# Altium integrated library Maxim Audio Pre-Amplifier.IntLib: 2 symbols
Pins are listed as number, name and electrical type; pins without a type are passive.

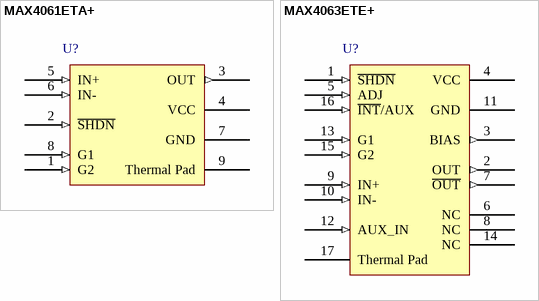
[diagram p0: symbols MAX4061ETA+ to MAX4063ETE+]

## MAX4061ETA+
designator U?
Differential Microphone Preamplifier with Internal Bias and Complete Shutdown; Published: 30-May-2008; DatasheetVersion: Rev 2; 5/05; PackageVersion: Rev I, 21-0137; PackageReference: T833-2; Publisher: Altium Limited; PackageDescription: 8-Pin Thin Dual Flat No-Lead, 0.65 mm Pitch (T833-2); Code_JEDEC: MO-229-WEEC; ComponentLink1Description: Manufacturer Link; ComponentLink1URL: http://www.maxim-ic.com/; ComponentLink2Description: Datasheet; ComponentLink2URL: http://datasheets.maxim-ic.com/en/ds/MAX4060-MAX4062.pdf
footprint T833-2_N (SON, 8-Leads, Body 3x3 mm, Pitch 0.65mm, IPC Medium Density)
footprint T833-2_L (SON, 8-Leads, Body 3x3 mm, Pitch 0.65mm, IPC High Density)
footprint T833-2_M (SON, 8-Leads, Body 3x3 mm, Pitch 0.65mm, IPC Low Density)
pins: 1 G2 (in), 2 ~{SHDN} (in), 3 OUT (out), 4 VCC (power), 5 IN+ (in), 6 IN- (in), 7 GND (power), 8 G1 (in), 9 Thermal Pad

## MAX4063ETE+
designator U?
Differential Microphone Preamplifier with Internal Bias and Complete Shutdown; Published: 30-May-2008; DatasheetVersion: rev0, Jan-2001; PackageVersion: revA; PackageReference: T1644-2; Publisher: Altium Limited; PackageDescription: 16-Pin Quad Flat No-Lead 0.65 mm Pitch, 2.1x2.1 mm Exposed Pad [TQFN16]; Code_JEDEC: MO-220WGGC; ComponentLink1Description: Manufacturer Link; ComponentLink1URL: http://www.maxim-ic.com/; ComponentLink2Description: Datasheet; ComponentLink2URL: http://datasheets.maxim-ic.com/en/ds/MAX4063.pdf
footprint T1644-2_N (QFN, 16-Leads, Body 4x4 mm, Pitch 0.65mm, IPC Medium Density)
footprint T1644-2_L (QFN, 16-Leads, Body 4x4 mm, Pitch 0.65mm, IPC High Density)
footprint T1644-2_M (QFN, 16-Leads, Body 4x4 mm, Pitch 0.65mm, IPC Low Density)
pins: 1 ~{SHDN} (in), 2 OUT (out), 3 BIAS (out), 4 VCC (power), 5 ADJ (in), 6 NC, 7 ~{OUT} (out), 8 NC, 9 IN+ (in), 10 IN- (in), 11 GND (power), 12 AUX_IN (in), 13 G1 (in), 14 NC, 15 G2 (in), 16 ~{INT}/AUX (in), 17 Thermal Pad